# EAGLE library part ADXRS453 (library robotter_ic)
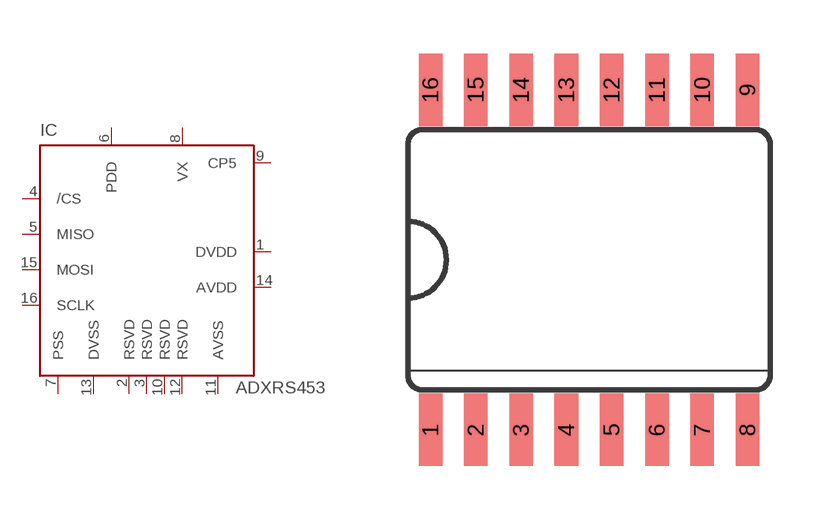
[diagram p15: symbol with the pads of SO16_CAV; footprint SO16_CAV]

Designator prefix IC

## ADXRS453BRGZ (FARNELL: 2377130; MOUSER: 584-ADXRS453BRGZ)  [SO16_CAV]
1  DVDD
2  RSVD
3  RSVD
4  /CS
5  MISO
6  PDD
7  PSS
8  VX
9  CP5
10  RSVD
11  AVSS
12  RSVD
13  DVSS
14  AVDD
15  MOSI
16  SCLK

## Footprint SO16_CAV (pad centres in mm)
smd 0.66 x 2.032: 1 -4.445,-4.77; 2 -3.175,-4.77; 3 -1.905,-4.77; 4 -0.635,-4.77; 5 0.635,-4.77; 6 1.905,-4.77; 7 3.175,-4.77; 8 4.445,-4.77; 9 4.445,4.77; 10 3.175,4.77; 11 1.905,4.77; 12 0.635,4.77; 13 -0.635,4.77; 14 -1.905,4.77; 15 -3.175,4.77; 16 -4.445,4.77